# EAGLE library part DUMMY-MSOP16 (library all-chips)
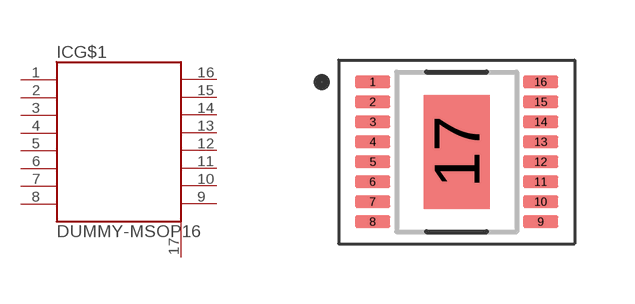
[diagram p14: symbol with the pads of MSOP16-EP_3.00X4.00MM; footprint MSOP16-EP_3.00X4.00MM]

Designator prefix IC; gates G$1=DUMMY_8-8 EP=PIN

## DUMMY-MSOP16  [MSOP16-EP_3.00X4.00MM]
1  G$1:1  pas
2  G$1:2  pas
3  G$1:3  pas
4  G$1:4  pas
5  G$1:5  pas
6  G$1:6  pas
7  G$1:7  pas
8  G$1:8  pas
9  G$1:9  pas
10  G$1:10  pas
11  G$1:11  pas
12  G$1:12  pas
13  G$1:13  pas
14  G$1:14  pas
15  G$1:15  pas
16  G$1:16  pas
17  EP:1  pas

## Footprint MSOP16-EP_3.00X4.00MM (pad centres in mm)
https://www.analog.com/media/en/package-pcb-resources/package/pkg_pdf/ltc-legacy-msop/05081667_F_MSE16.pdf
smd 0.89 x 0.305: 1 -2.1,1.75; 2 -2.1,1.25; 3 -2.1,0.75; 4 -2.1,0.25; 5 -2.1,-0.25; 6 -2.1,-0.75; 7 -2.1,-1.25; 8 -2.1,-1.75; 9 2.1,-1.75; 10 2.1,-1.25; 11 2.1,-0.75; 12 2.1,-0.25; 13 2.1,0.25; 14 2.1,0.75; 15 2.1,1.25; 16 2.1,1.75
smd 1.65 x 2.85: 17 0,0